# Altium integrated library Resistor 0603.IntLib: 149 symbols (part 2 of 2)
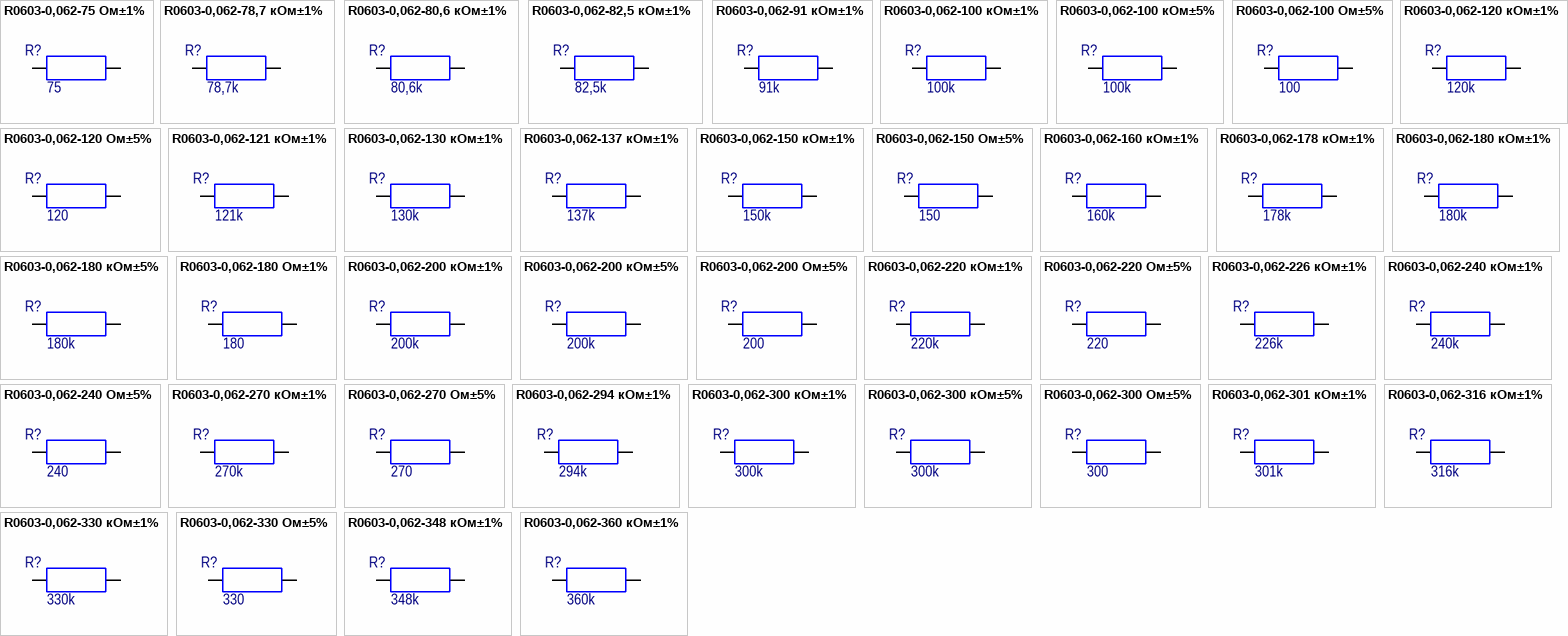
[diagram p4: symbols R0603-0,062-75 Ом±1% to R0603-0,062-360 кОм±1%]

## R0603-0,062-178 кОм±1%
designator R?  value 178k
RES SMD 178K OHM 1% 1/10W 0603; Manufacturer: Vishay Dale; ManufacturerPartNumber: CRCW0603178KFK; Group: 9130; RegulationProcent: 10; TypeName: Резистор; Distributor: Digi-Key; DistributorPartNumber: 541-178KHCT-ND; LatestRevisionDate: 01.10.2015; Library: Resistor 0603; Package: 1608 [0603]; Published: 01.10.2015; Publisher: Stanchik A
footprint RESC1608N [0603] (Chip Resistor, Body 1.6x0.8mm, IPC Medium Density)
signal-integrity model Resistor
pins: 1, 2

## R0603-0,062-180 кОм±1%
designator R?  value 180k
RES SMD 180K OHM 1% 1/10W 0603; Manufacturer: Vishay Dale; ManufacturerPartNumber: CRCW0603180KFK; Group: 9130; RegulationProcent: 10; TypeName: Резистор; Distributor: Digi-Key; DistributorPartNumber: 541-180KHCT-ND; LatestRevisionDate: 10.10.2016; Library: Resistor 0603; Package: 1608 [0603]; Published: 10.10.2016; Publisher: Stanchik A
footprint RESC1608N [0603] (Chip Resistor, Body 1.6x0.8mm, IPC Medium Density)
signal-integrity model Resistor
pins: 1, 2

## R0603-0,062-180 кОм±5%
designator R?  value 180k
RES SMD 180K OHM 5% 1/10W 0603; Manufacturer: Vishay Dale; ManufacturerPartNumber: CRCW0603180KJN; Group: 9130; RegulationProcent: 10; TypeName: Резистор; Distributor: Digi-Key; DistributorPartNumber: 541-180KGCT-ND; LatestRevisionDate: 07.06.2016; Library: Resistor 0603; Package: 1608 [0603]; Published: 07.06.2016; Publisher: Stanchik A
footprint RESC1608N [0603] (Chip Resistor, Body 1.6x0.8mm, IPC Medium Density)
signal-integrity model Resistor
pins: 1, 2

## R0603-0,062-180 Ом±1%
designator R?  value 180
RES SMD 180 OHM 1% 1/10W 0603; Manufacturer: Vishay Dale; ManufacturerPartNumber: CRCW0603180RFK; Group: 9130; RegulationProcent: 10; TypeName: Резистор; Distributor: Digi-Key; DistributorPartNumber: 541-180HCT-ND; LatestRevisionDate: 10.09.2015; Library: Resistor 0603; Package: 1608 [0603]; Published: 10.09.2015; Publisher: Stanchik A
footprint RESC1608N [0603] (Chip Resistor, Body 1.6x0.8mm, IPC Medium Density)
signal-integrity model Resistor
pins: 1, 2

## R0603-0,062-200 кОм±1%
designator R?  value 200k
RES 200k OHM 1/10W 1% 0603 SMD; Manufacturer: Vishay Dale; ManufacturerPartNumber: CRCW0603200KFK; Group: 9130; RegulationProcent: 10; TypeName: Резистор; Distributor: Digi-Key; DistributorPartNumber: 541-200KHCT-ND; LatestRevisionDate: 10.07.2013; Library: Resistor 0603; Package: 1608 [0603]; Published: 29.11.2013; Publisher: Auchinik
footprint RESC1608N [0603] (Chip Resistor, Body 1.6x0.8mm, IPC Medium Density)
signal-integrity model Resistor
pins: 1, 2

## R0603-0,062-200 кОм±5%
designator R?  value 200k
RES SMD 200K OHM 5% 1/10W 0603; Manufacturer: Vishay Dale; ManufacturerPartNumber: CRCW0603200KJN; Group: 9130; RegulationProcent: 10; TypeName: Резистор; Distributor: Digi-Key; DistributorPartNumber: 541-200KGCT-ND; LatestRevisionDate: 14.07.2017; Library: Resistor 0603; Package: 1608 [0603]; Published: 14.07.2017; Publisher: Stanchik A
footprint RESC1608N [0603] (Chip Resistor, Body 1.6x0.8mm, IPC Medium Density)
signal-integrity model Resistor
pins: 1, 2

## R0603-0,062-200 Ом±5%
designator R?  value 200
RES 200 OHM 1/10W 5% 0603 SMD; Manufacturer: Vishay Dale; ManufacturerPartNumber: CRCW0603200RJN; Group: 9130; RegulationProcent: 10; TypeName: Резистор; Distributor: Digi-Key; DistributorPartNumber: 541-200GCT-ND; LatestRevisionDate: 10.07.2013; Library: Resistor 0603; Package: 1608 [0603]; Published: 10.07.2013; Publisher: Konon DI
footprint RESC1608N [0603] (Chip Resistor, Body 1.6x0.8mm, IPC Medium Density)
signal-integrity model Resistor
pins: 1, 2

## R0603-0,062-220 кОм±1%
designator R?  value 220k
RES SMD 220K OHM 1% 1/10W 0603; Manufacturer: Vishay Dale; ManufacturerPartNumber: CRCW0603220KFK; Group: 9130; RegulationProcent: 10; TypeName: Резистор; Distributor: Digi-Key; DistributorPartNumber: 541-220KHCT-ND; LatestRevisionDate: 25.04.2015; Library: Resistor 0603; Package: 1608 [0603]; Published: 25.04.2015; Publisher: Stanchik A
footprint RESC1608N [0603] (Chip Resistor, Body 1.6x0.8mm, IPC Medium Density)
signal-integrity model Resistor
pins: 1, 2

## R0603-0,062-220 Ом±5%
designator R?  value 220
RES 220 OHM 1/10W 5% 0603 SMD; Manufacturer: Vishay Dale; ManufacturerPartNumber: CRCW0603220RJN; Group: 9130; RegulationProcent: 10; TypeName: Резистор; Distributor: Digi-Key; DistributorPartNumber: 541-220GCT-ND; LatestRevisionDate: 10.07.2013; Library: Resistor 0603; Package: 1608 [0603]; Published: 10.07.2013; Publisher: Konon DI
footprint RESC1608N [0603] (Chip Resistor, Body 1.6x0.8mm, IPC Medium Density)
signal-integrity model Resistor
pins: 1, 2

## R0603-0,062-226 кОм±1%
designator R?  value 226k
RES SMD 226K OHM 1% 1/10W 0603; Manufacturer: Vishay Dale; ManufacturerPartNumber: CRCW0603226KFK; Group: 9130; RegulationProcent: 10; TypeName: Резистор; Distributor: Digi-Key; DistributorPartNumber: 541-226KHCT-ND; LatestRevisionDate: 16.07.2015; Library: Resistor 0603; Package: 1608 [0603]; Published: 16.07.2015; Publisher: Stanchik A
footprint RESC1608N [0603] (Chip Resistor, Body 1.6x0.8mm, IPC Medium Density)
signal-integrity model Resistor
pins: 1, 2

## R0603-0,062-240 кОм±1%
designator R?  value 240k
RES SMD 240K OHM 1% 1/10W 0603; Manufacturer: Vishay Dale; ManufacturerPartNumber: CRCW0603240KFK; Group: 9130; RegulationProcent: 10; TypeName: Резистор; Distributor: Digi-Key; DistributorPartNumber: 541-240KHCT-ND; LatestRevisionDate: 27.05.2016; Library: Resistor 0603; Package: 1608 [0603]; Published: 27.05.2016; Publisher: Stanchik A
footprint RESC1608N [0603] (Chip Resistor, Body 1.6x0.8mm, IPC Medium Density)
signal-integrity model Resistor
pins: 1, 2

## R0603-0,062-240 Ом±5%
designator R?  value 240
RES SMD 240 OHM 5% 1/10W 0603; Manufacturer: Vishay Dale; ManufacturerPartNumber: CRCW0603240RJN; Group: 9130; RegulationProcent: 10; TypeName: Резистор; Distributor: Digi-Key; DistributorPartNumber: 541-240GCT-ND; LatestRevisionDate: 21.10.2016; Library: Resistor 0603; Package: 1608 [0603]; Published: 21.10.2016; Publisher: Stanchik A
footprint RESC1608N [0603] (Chip Resistor, Body 1.6x0.8mm, IPC Medium Density)
signal-integrity model Resistor
pins: 1, 2

## R0603-0,062-270 кОм±1%
designator R?  value 270k
RES SMD 270K OHM 1% 1/10W 0603; Manufacturer: Vishay Dale; ManufacturerPartNumber: CRCW0603270KFK; Group: 9130; RegulationProcent: 10; TypeName: Резистор; Distributor: Digi-Key; DistributorPartNumber: 541-270KHCT-ND; LatestRevisionDate: 16.09.2015; Library: Resistor 0603; Package: 1608 [0603]; Published: 16.09.2015; Publisher: Stanchik A
footprint RESC1608N [0603] (Chip Resistor, Body 1.6x0.8mm, IPC Medium Density)
signal-integrity model Resistor
pins: 1, 2

## R0603-0,062-270 Ом±5%
designator R?  value 270
RES SMD 270 OHM 5% 1/10W 0603; Manufacturer: Vishay Dale; ManufacturerPartNumber: CRCW0603270RJN; Group: 9130; RegulationProcent: 10; TypeName: Резистор; Distributor: Digi-Key; DistributorPartNumber: 541-270GCT-ND; LatestRevisionDate: 21.10.2016; Library: Resistor 0603; Package: 1608 [0603]; Published: 21.10.2016; Publisher: Stanchik A
footprint RESC1608N [0603] (Chip Resistor, Body 1.6x0.8mm, IPC Medium Density)
signal-integrity model Resistor
pins: 1, 2

## R0603-0,062-294 кОм±1%
designator R?  value 294k
RES SMD 294K OHM 1% 1/10W 0603; Manufacturer: Vishay Dale; ManufacturerPartNumber: CRCW0603294KFK; Group: 9130; RegulationProcent: 10; TypeName: Резистор; Distributor: Digi-Key; DistributorPartNumber: 541-294KHCT-ND; LatestRevisionDate: 28.08.2017; Library: Resistor 0603; Package: 1608 [0603]; Published: 28.08.2017; Publisher: Stanchik A
footprint RESC1608N [0603] (Chip Resistor, Body 1.6x0.8mm, IPC Medium Density)
signal-integrity model Resistor
pins: 1, 2

## R0603-0,062-300 кОм±1%
designator R?  value 300k
RES 300K OHM 1/10W 1% 0603 SMD; Manufacturer: Vishay Dale; ManufacturerPartNumber: CRCW0603300KFK; Group: 9130; RegulationProcent: 10; TypeName: Резистор; Distributor: Digi-Key; DistributorPartNumber: 541-300KHDKR-ND; LatestRevisionDate: 19.11.2014; Library: Resistor 0603; Package: 1608 [0603]; Published: 19.11.2014; Publisher: Stanchik A
footprint RESC1608N [0603] (Chip Resistor, Body 1.6x0.8mm, IPC Medium Density)
signal-integrity model Resistor
pins: 1, 2

## R0603-0,062-300 кОм±5%
designator R?  value 300k
RES SMD 300K OHM 5% 1/10W 0603; Manufacturer: Vishay Dale; ManufacturerPartNumber: CRCW0603300KJN; Group: 9130; RegulationProcent: 10; TypeName: Резистор; Distributor: Digi-Key; DistributorPartNumber: 541-300KGCT-ND; LatestRevisionDate: 13.07.2015; Library: Resistor 0603; Package: 1608 [0603]; Published: 13.07.2015; Publisher: Stanchik A
footprint RESC1608N [0603] (Chip Resistor, Body 1.6x0.8mm, IPC Medium Density)
signal-integrity model Resistor
pins: 1, 2

## R0603-0,062-300 Ом±5%
designator R?  value 300
RES SMD 300 OHM 5% 1/10W 0603; Manufacturer: Vishay Dale; ManufacturerPartNumber: CRCW0603300RJN; Group: 9130; RegulationProcent: 10; TypeName: Резистор; Distributor: Digi-Key; DistributorPartNumber: 541-300GCT-ND; LatestRevisionDate: 21.10.2016; Library: Resistor 0603; Package: 1608 [0603]; Published: 21.10.2016; Publisher: Stanchik A
footprint RESC1608N [0603] (Chip Resistor, Body 1.6x0.8mm, IPC Medium Density)
signal-integrity model Resistor
pins: 1, 2

## R0603-0,062-301 кОм±1%
designator R?  value 301k
RES 301K OHM 1/10W 1% 0603 SMD; Manufacturer: Vishay Dale; ManufacturerPartNumber: CRCW0603301KFK; Group: 9130; RegulationProcent: 10; TypeName: Резистор; Distributor: Digi-Key; DistributorPartNumber: 541-301KHDKR-ND; LatestRevisionDate: 19.11.2014; Library: Resistor 0603; Package: 1608 [0603]; Published: 19.11.2014; Publisher: Stanchik A
footprint RESC1608N [0603] (Chip Resistor, Body 1.6x0.8mm, IPC Medium Density)
signal-integrity model Resistor
pins: 1, 2

## R0603-0,062-316 кОм±1%
designator R?  value 316k
RES SMD 316K OHM 1% 1/10W 0603; Manufacturer: Vishay Dale; ManufacturerPartNumber: CRCW0603316KFK; Group: 9130; RegulationProcent: 10; TypeName: Резистор; Distributor: Digi-Key; DistributorPartNumber: 541-316KHCT-ND; LatestRevisionDate: 01.03.2017; Library: Resistor 0603; Package: 1608 [0603]; Published: 01.03.2017; Publisher: Stanchik A
footprint RESC1608N [0603] (Chip Resistor, Body 1.6x0.8mm, IPC Medium Density)
signal-integrity model Resistor
pins: 1, 2

## R0603-0,062-330 кОм±1%
designator R?  value 330k
RES 330k OHM 1/10W 1% 0603 SMD; Manufacturer: Vishay Dale; ManufacturerPartNumber: CRCW0603330KFK; Group: 9130; RegulationProcent: 10; TypeName: Резистор; Distributor: Digi-Key; DistributorPartNumber: 541-330KHCT-ND; LatestRevisionDate: 10.07.2013; Library: Resistor 0603; Package: 1608 [0603]; Published: 29.11.2013; Publisher: Auchinik
footprint RESC1608N [0603] (Chip Resistor, Body 1.6x0.8mm, IPC Medium Density)
signal-integrity model Resistor
pins: 1, 2

## R0603-0,062-330 Ом±5%
designator R?  value 330
RES 330 OHM 1/10W 5% 0603 SMD; Manufacturer: Vishay Dale; ManufacturerPartNumber: CRCW0603330RJN; Group: 9130; RegulationProcent: 10; TypeName: Резистор; Distributor: Digi-Key; DistributorPartNumber: 541-330GCT-ND; LatestRevisionDate: 10.07.2013; Library: Resistor 0603; Package: 1608 [0603]; Published: 10.07.2013; Publisher: Konon DI
footprint RESC1608N [0603] (Chip Resistor, Body 1.6x0.8mm, IPC Medium Density)
signal-integrity model Resistor
pins: 1, 2

## R0603-0,062-348 кОм±1%
designator R?  value 348k
RES SMD 348K OHM 1% 1/10W 0603; Manufacturer: Vishay Dale; ManufacturerPartNumber: CRCW0603348KFK; Group: 9130; RegulationProcent: 10; TypeName: Резистор; Distributor: Digi-Key; DistributorPartNumber: 541-348KHCT-ND; LatestRevisionDate: 07.06.2016; Library: Resistor 0603; Package: 1608 [0603]; Published: 07.06.2016; Publisher: Stanchik A
footprint RESC1608N [0603] (Chip Resistor, Body 1.6x0.8mm, IPC Medium Density)
signal-integrity model Resistor
pins: 1, 2

## R0603-0,062-360 кОм±1%
designator R?  value 360k
RES 360K OHM 1/10W 1% 0603 SMD; Manufacturer: Vishay Dale; ManufacturerPartNumber: CRCW0603360KFK; Group: 9130; RegulationProcent: 10; TypeName: Резистор; Distributor: Digi-Key; DistributorPartNumber: 541-360KHDKR-ND; LatestRevisionDate: 28.07.2014; Library: Resistor 0603; Package: 1608 [0603]; Published: 28.07.2014; Publisher: Stanchik A
footprint RESC1608N [0603] (Chip Resistor, Body 1.6x0.8mm, IPC Medium Density)
signal-integrity model Resistor
pins: 1, 2

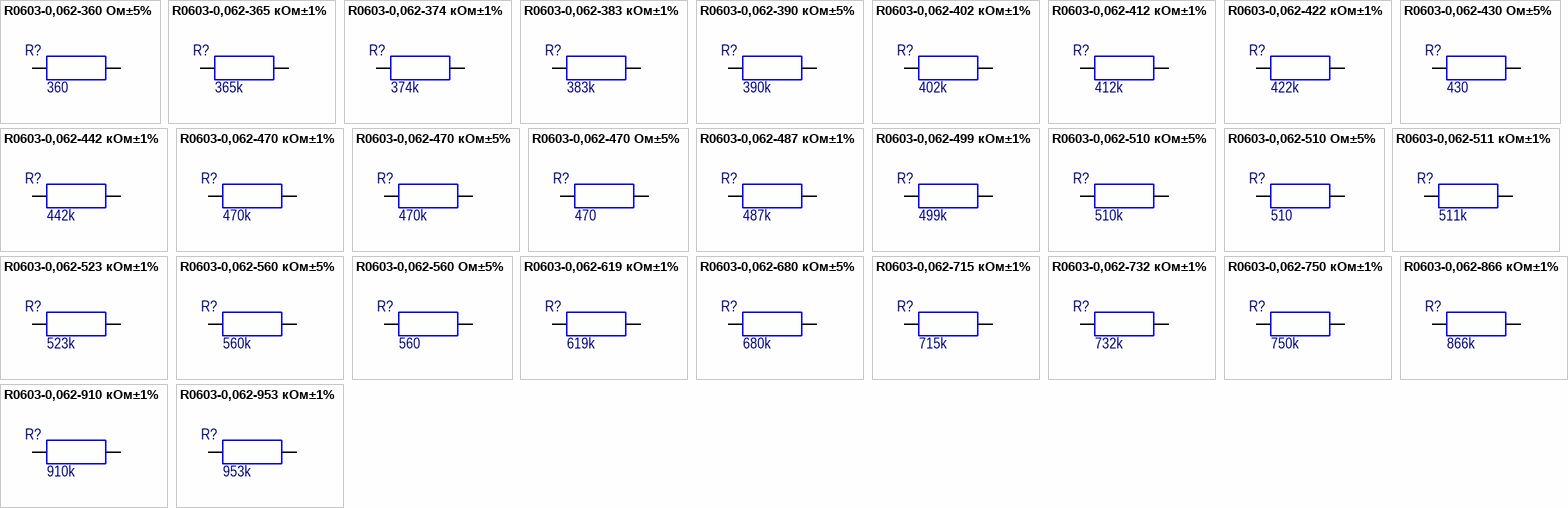
[diagram p3: symbols R0603-0,062-360 Ом±5% to R0603-0,062-953 кОм±1%]

## R0603-0,062-360 Ом±5%
designator R?  value 360
RES SMD 360 OHM 5% 1/10W 0603; Manufacturer: Vishay Dale; ManufacturerPartNumber: CRCW0603360RJN; Group: 9130; RegulationProcent: 10; TypeName: Резистор; Distributor: Digi-Key; DistributorPartNumber: 541-360GCT-ND; LatestRevisionDate: 25.06.2015; Library: Resistor 0603; Package: 1608 [0603]; Published: 25.06.2015; Publisher: Stanchik A
footprint RESC1608N [0603] (Chip Resistor, Body 1.6x0.8mm, IPC Medium Density)
signal-integrity model Resistor
pins: 1, 2

## R0603-0,062-365 кОм±1%
designator R?  value 365k
RES SMD 365K OHM 1% 1/10W 0603; Manufacturer: Vishay Dale; ManufacturerPartNumber: CRCW0603365KFK; Group: 9130; RegulationProcent: 10; TypeName: Резистор; Distributor: Digi-Key; DistributorPartNumber: 541-365KHCT-ND; LatestRevisionDate: 10.01.2015; Library: Resistor 0603; Package: 1608 [0603]; Published: 10.01.2015; Publisher: Stanchik A
footprint RESC1608N [0603] (Chip Resistor, Body 1.6x0.8mm, IPC Medium Density)
signal-integrity model Resistor
pins: 1, 2

## R0603-0,062-374 кОм±1%
designator R?  value 374k
RES SMD 374K OHM 1% 1/10W 0603; Manufacturer: Vishay Dale; ManufacturerPartNumber: CRCW0603374KFK; Group: 9130; RegulationProcent: 10; TypeName: Резистор; Distributor: Digi-Key; DistributorPartNumber: 541-374KHCT-ND; LatestRevisionDate: 10.05.2017; Library: Resistor 0603; Package: 1608 [0603]; Published: 10.05.2017; Publisher: Stanchik A
footprint RESC1608N [0603] (Chip Resistor, Body 1.6x0.8mm, IPC Medium Density)
signal-integrity model Resistor
pins: 1, 2

## R0603-0,062-383 кОм±1%
designator R?  value 383k
RES SMD 383K OHM 1% 1/10W 0603; Manufacturer: Vishay Dale; ManufacturerPartNumber: CRCW0603383KFK; Group: 9130; RegulationProcent: 10; TypeName: Резистор; Distributor: Digi-Key; DistributorPartNumber: 541-383KHCT-ND; LatestRevisionDate: 13.07.2015; Library: Resistor 0603; Package: 1608 [0603]; Published: 13.07.2015; Publisher: Stanchik A
footprint RESC1608N [0603] (Chip Resistor, Body 1.6x0.8mm, IPC Medium Density)
signal-integrity model Resistor
pins: 1, 2

## R0603-0,062-390 кОм±5%
designator R?  value 390k
RES SMD 390K OHM 5% 1/10W 0603; Manufacturer: Vishay Dale; ManufacturerPartNumber: CRCW0603390KJN; Group: 9130; RegulationProcent: 10; TypeName: Резистор; Distributor: Digi-Key; DistributorPartNumber: 541-390KGCT-ND; LatestRevisionDate: 12.01.2015; Library: Resistor 0603; Package: 1608 [0603]; Published: 12.01.2015; Publisher: Stanchik A
footprint RESC1608N [0603] (Chip Resistor, Body 1.6x0.8mm, IPC Medium Density)
signal-integrity model Resistor
pins: 1, 2

## R0603-0,062-402 кОм±1%
designator R?  value 402k
RES SMD 402K OHM 1% 1/10W 0603; Manufacturer: Vishay Dale; ManufacturerPartNumber: CRCW0603402KFK; Group: 9130; RegulationProcent: 10; TypeName: Резистор; Distributor: Digi-Key; DistributorPartNumber: 541-402KHCT-ND; LatestRevisionDate: 28.08.2017; Library: Resistor 0603; Package: 1608 [0603]; Published: 28.08.2017; Publisher: Stanchik A
footprint RESC1608N [0603] (Chip Resistor, Body 1.6x0.8mm, IPC Medium Density)
signal-integrity model Resistor
pins: 1, 2

## R0603-0,062-412 кОм±1%
designator R?  value 412k
RES 412K OHM 1/10W 1% 0603 SMD; Manufacturer: Vishay Dale; ManufacturerPartNumber: CRCW0603412KFK; Group: 9130; RegulationProcent: 10; TypeName: Резистор; Distributor: Digi-Key; DistributorPartNumber: 541-412KHCT-ND; LatestRevisionDate: 10.07.2013; Library: Resistor 0603; Package: 1608 [0603]; Published: 10.07.2013; Publisher: Konon DI
footprint RESC1608N [0603] (Chip Resistor, Body 1.6x0.8mm, IPC Medium Density)
signal-integrity model Resistor
pins: 1, 2

## R0603-0,062-422 кОм±1%
designator R?  value 422k
RES SMD 422K OHM 1% 1/10W 0603; Manufacturer: Vishay Dale; ManufacturerPartNumber: CRCW0603422KFK; Group: 9130; RegulationProcent: 10; TypeName: Резистор; Distributor: Digi-Key; DistributorPartNumber: 541-422KHCT-ND; LatestRevisionDate: 19.02.2015; Library: Resistor 0603; Package: 1608 [0603]; Published: 19.02.2015; Publisher: Stanchik A
footprint RESC1608N [0603] (Chip Resistor, Body 1.6x0.8mm, IPC Medium Density)
signal-integrity model Resistor
pins: 1, 2

## R0603-0,062-430 Ом±5%
designator R?  value 430
RES SMD 430 OHM 5% 1/10W 0603; Manufacturer: Vishay Dale; ManufacturerPartNumber: CRCW0603430RJN; Group: 9130; RegulationProcent: 10; TypeName: Резистор; Distributor: Digi-Key; DistributorPartNumber: 541-430GCT-ND; LatestRevisionDate: 01.11.2016; Library: Resistor 0603; Package: 1608 [0603]; Published: 01.11.2016; Publisher: Stanchik A
footprint RESC1608N [0603] (Chip Resistor, Body 1.6x0.8mm, IPC Medium Density)
signal-integrity model Resistor
pins: 1, 2

## R0603-0,062-442 кОм±1%
designator R?  value 442k
RES 442K OHM 1/10W 1% 0603 SMD; Manufacturer: Vishay Dale; ManufacturerPartNumber: CRCW0603442KFK; Group: 9130; RegulationProcent: 10; TypeName: Резистор; Distributor: Digi-Key; DistributorPartNumber: 541-442KHCT-ND; LatestRevisionDate: 10.07.2013; Library: Resistor 0603; Package: 1608 [0603]; Published: 10.07.2013; Publisher: Konon DI
footprint RESC1608N [0603] (Chip Resistor, Body 1.6x0.8mm, IPC Medium Density)
signal-integrity model Resistor
pins: 1, 2

## R0603-0,062-470 кОм±1%
designator R?  value 470k
RES 470k OHM 1/10W 1% 0603 SMD; Manufacturer: Vishay Dale; ManufacturerPartNumber: CRCW0603470KFK; Group: 9130; RegulationProcent: 10; TypeName: Резистор; Distributor: Digi-Key; DistributorPartNumber: 541-470KHCT-ND; LatestRevisionDate: 10.07.2013; Library: Resistor 0603; Package: 1608 [0603]; Published: 29.11.2013; Publisher: Auchinik
footprint RESC1608N [0603] (Chip Resistor, Body 1.6x0.8mm, IPC Medium Density)
signal-integrity model Resistor
pins: 1, 2

## R0603-0,062-470 кОм±5%
designator R?  value 470k
RES SMD 470K OHM 5% 1/10W 0603; Manufacturer: Vishay Dale; ManufacturerPartNumber: CRCW0603470KJN; Group: 9130; RegulationProcent: 10; TypeName: Резистор; Distributor: Digi-Key; DistributorPartNumber: 541-470KGCT-ND; LatestRevisionDate: 02.12.2015; Library: Resistor 0603; Package: 1608 [0603]; Published: 02.12.2015; Publisher: Stanchik A
footprint RESC1608N [0603] (Chip Resistor, Body 1.6x0.8mm, IPC Medium Density)
signal-integrity model Resistor
pins: 1, 2

## R0603-0,062-470 Ом±5%
designator R?  value 470
RES SMD 470 OHM 5% 1/10W 0603; Manufacturer: Vishay Dale; ManufacturerPartNumber: CRCW0603470RJN; Group: 9130; RegulationProcent: 10; TypeName: Резистор; Distributor: Digi-Key; DistributorPartNumber: 541-470GCT-ND; LatestRevisionDate: 01.11.2016; Library: Resistor 0603; Package: 1608 [0603]; Published: 01.11.2016; Publisher: Stanchik A
footprint RESC1608N [0603] (Chip Resistor, Body 1.6x0.8mm, IPC Medium Density)
signal-integrity model Resistor
pins: 1, 2

## R0603-0,062-487 кОм±1%
designator R?  value 487k
RES SMD 487K OHM 1% 1/10W 0603; Manufacturer: Vishay Dale; ManufacturerPartNumber: CRCW0603487KFK; Group: 9130; RegulationProcent: 10; TypeName: Резистор; Distributor: Digi-Key; DistributorPartNumber: 541-487KHCT-ND; LatestRevisionDate: 19.02.2015; Library: Resistor 0603; Package: 1608 [0603]; Published: 19.02.2015; Publisher: Stanchik A
footprint RESC1608N [0603] (Chip Resistor, Body 1.6x0.8mm, IPC Medium Density)
signal-integrity model Resistor
pins: 1, 2

## R0603-0,062-499 кОм±1%
designator R?  value 499k
RES SMD 499K OHM 1% 1/10W 0603; Manufacturer: Vishay Dale; ManufacturerPartNumber: CRCW0603499KFK; Group: 9130; RegulationProcent: 10; TypeName: Резистор; Distributor: Digi-Key; DistributorPartNumber: 541-499KHCT-ND; LatestRevisionDate: 16.07.2015; Library: Resistor 0603; Package: 1608 [0603]; Published: 16.07.2015; Publisher: Stanchik A
footprint RESC1608N [0603] (Chip Resistor, Body 1.6x0.8mm, IPC Medium Density)
signal-integrity model Resistor
pins: 1, 2

## R0603-0,062-510 кОм±5%
designator R?  value 510k
RES SMD 510K OHM 5% 1/10W 0603; Manufacturer: Vishay Dale; ManufacturerPartNumber: CRCW0603510KJN; Group: 9130; RegulationProcent: 10; TypeName: Резистор; Distributor: Digi-Key; DistributorPartNumber: 541-510KGCT-ND; LatestRevisionDate: 17.07.2015; Library: Resistor 0603; Package: 1608 [0603]; Published: 17.07.2015; Publisher: Stanchik A
footprint RESC1608N [0603] (Chip Resistor, Body 1.6x0.8mm, IPC Medium Density)
signal-integrity model Resistor
pins: 1, 2

## R0603-0,062-510 Ом±5%
designator R?  value 510
RES SMD 510 OHM 5% 1/10W 0603; Manufacturer: Vishay Dale; ManufacturerPartNumber: CRCW0603510RJN; Group: 9130; RegulationProcent: 10; TypeName: Резистор; Distributor: Digi-Key; DistributorPartNumber: 541-510GCT-ND; LatestRevisionDate: 10.01.2015; Library: Resistor 0603; Package: 1608 [0603]; Published: 10.01.2015; Publisher: Stanchik A
footprint RESC1608N [0603] (Chip Resistor, Body 1.6x0.8mm, IPC Medium Density)
signal-integrity model Resistor
pins: 1, 2

## R0603-0,062-511 кОм±1%
designator R?  value 511k
RES SMD 511K OHM 1% 1/10W 0603; Manufacturer: Vishay Dale; ManufacturerPartNumber: CRCW0603511KFK; Group: 9130; RegulationProcent: 10; TypeName: Резистор; Distributor: Digi-Key; DistributorPartNumber: 541-511KHCT-ND; LatestRevisionDate: 17.02.2015; Library: Resistor 0603; Package: 1608 [0603]; Published: 17.02.2015; Publisher: Stanchik A
footprint RESC1608N [0603] (Chip Resistor, Body 1.6x0.8mm, IPC Medium Density)
signal-integrity model Resistor
pins: 1, 2

## R0603-0,062-523 кОм±1%
designator R?  value 523k
RES SMD 523K OHM 1% 1/10W 0603; Manufacturer: Vishay Dale; ManufacturerPartNumber: CRCW0603523KFK; Group: 9130; RegulationProcent: 10; TypeName: Резистор; Distributor: Digi-Key; DistributorPartNumber: 541-523KHCT-ND; LatestRevisionDate: 01.03.2017; Library: Resistor 0603; Package: 1608 [0603]; Published: 01.03.2017; Publisher: Stanchik A
footprint RESC1608N [0603] (Chip Resistor, Body 1.6x0.8mm, IPC Medium Density)
signal-integrity model Resistor
pins: 1, 2

## R0603-0,062-560 кОм±5%
designator R?  value 560k
RES 560K OHM 1/10W 5% 0603 SMD; Manufacturer: Vishay Dale; ManufacturerPartNumber: CRCW0603560KJN; Group: 9130; RegulationProcent: 10; TypeName: Резистор; Distributor: Digi-Key; DistributorPartNumber: 541-560KGCT-ND; LatestRevisionDate: 05.10.2016; Library: Resistor 0603; Package: 1608 [0603]; Published: 05.10.2016; Publisher: Stanchik A
footprint RESC1608N [0603] (Chip Resistor, Body 1.6x0.8mm, IPC Medium Density)
signal-integrity model Resistor
pins: 1, 2

## R0603-0,062-560 Ом±5%
designator R?  value 560
RES 560 OHM 1/10W 5% 0603 SMD; Manufacturer: Bourns Inc.; ManufacturerPartNumber: CR0603-JW-561GLF; Group: 9130; RegulationProcent: 10; TypeName: Резистор; Distributor: Digi-Key; DistributorPartNumber: CR0603-JW-561GLFCT-ND; LatestRevisionDate: 07.05.2014; Library: Resistor 0603; Package: 1608 [0603]; Published: 07.05.2014; Publisher: Stanchik A F
footprint RESC1608N [0603] (Chip Resistor, Body 1.6x0.8mm, IPC Medium Density)
signal-integrity model Resistor
pins: 1, 2

## R0603-0,062-619 кОм±1%
designator R?  value 619k
RES SMD 619K OHM 1% 1/10W 0603; Manufacturer: Vishay Dale; ManufacturerPartNumber: CRCW0603619KFK; Group: 9130; RegulationProcent: 10; TypeName: Резистор; Distributor: Digi-Key; DistributorPartNumber: 541-619KHCT-ND; LatestRevisionDate: 17.02.2015; Library: Resistor 0603; Package: 1608 [0603]; Published: 17.02.2015; Publisher: Stanchik A
footprint RESC1608N [0603] (Chip Resistor, Body 1.6x0.8mm, IPC Medium Density)
signal-integrity model Resistor
pins: 1, 2

## R0603-0,062-680 кОм±5%
designator R?  value 680k
RES SMD 680K OHM 5% 1/10W 0603; Manufacturer: Vishay Dale; ManufacturerPartNumber: CRCW0603680KJN; Group: 9130; RegulationProcent: 10; TypeName: Резистор; Distributor: Digi-Key; DistributorPartNumber: 541-680KGCT-ND; LatestRevisionDate: 02.12.2015; Library: Resistor 0603; Package: 1608 [0603]; Published: 02.12.2015; Publisher: Stanchik A
footprint RESC1608N [0603] (Chip Resistor, Body 1.6x0.8mm, IPC Medium Density)
signal-integrity model Resistor
pins: 1, 2

## R0603-0,062-715 кОм±1%
designator R?  value 715k
RES SMD 715K OHM 1% 1/10W 0603; Manufacturer: Vishay Dale; ManufacturerPartNumber: CRCW0603715KFK; Group: 9130; RegulationProcent: 10; TypeName: Резистор; Distributor: Digi-Key; DistributorPartNumber: 541-715KHCT-ND; LatestRevisionDate: 19.02.2015; Library: Resistor 0603; Package: 1608 [0603]; Published: 19.02.2015; Publisher: Stanchik A
footprint RESC1608N [0603] (Chip Resistor, Body 1.6x0.8mm, IPC Medium Density)
signal-integrity model Resistor
pins: 1, 2

## R0603-0,062-732 кОм±1%
designator R?  value 732k
RES SMD 732K OHM 1% 1/10W 0603; Manufacturer: Vishay Dale; ManufacturerPartNumber: CRCW0603732KFK; Group: 9130; RegulationProcent: 10; TypeName: Резистор; Distributor: Digi-Key; DistributorPartNumber: 541-732KHCT-ND; LatestRevisionDate: 05.10.2015; Library: Resistor 0603; Package: 1608 [0603]; Published: 05.10.2015; Publisher: Stanchik A
footprint RESC1608N [0603] (Chip Resistor, Body 1.6x0.8mm, IPC Medium Density)
signal-integrity model Resistor
pins: 1, 2

## R0603-0,062-750 кОм±1%
designator R?  value 750k
RES SMD 750K OHM 1% 1/10W 0603; Manufacturer: Vishay Dale; ManufacturerPartNumber: CRCW0603750KFK; Group: 9130; RegulationProcent: 10; TypeName: Резистор; Distributor: Digi-Key; DistributorPartNumber: 541-750KHCT-ND; LatestRevisionDate: 12.05.2016; Library: Resistor 0603; Package: 1608 [0603]; Published: 12.05.2016; Publisher: Stanchik A
footprint RESC1608N [0603] (Chip Resistor, Body 1.6x0.8mm, IPC Medium Density)
signal-integrity model Resistor
pins: 1, 2

## R0603-0,062-866 кОм±1%
designator R?  value 866k
RES SMD 866K OHM 1% 1/10W 0603; Manufacturer: Vishay Dale; ManufacturerPartNumber: CRCW0603866KFK; Group: 9130; RegulationProcent: 10; TypeName: Резистор; Distributor: Digi-Key; DistributorPartNumber: 541-866KHCT-ND; LatestRevisionDate: 14.06.2016; Library: Resistor 0603; Package: 1608 [0603]; Published: 14.06.2016; Publisher: Stanchik A
footprint RESC1608N [0603] (Chip Resistor, Body 1.6x0.8mm, IPC Medium Density)
signal-integrity model Resistor
pins: 1, 2

## R0603-0,062-910 кОм±1%
designator R?  value 910k
RES 910K OHM 1/10W 1% 0603 SMD; Manufacturer: Vishay Dale; ManufacturerPartNumber: CRCW0603910KFK; Group: 9130; RegulationProcent: 10; TypeName: Резистор; Distributor: Digi-Key; DistributorPartNumber: 541-910KHCT-ND; LatestRevisionDate: 26.05.2014; Library: Resistor 0603; Package: 1608 [0603]; Published: 10.07.2013; Publisher: Auchinik
footprint RESC1608N [0603] (Chip Resistor, Body 1.6x0.8mm, IPC Medium Density)
signal-integrity model Resistor
pins: 1, 2

## R0603-0,062-953 кОм±1%
designator R?  value 953k
RES SMD 953K OHM 1% 1/10W 0603; Manufacturer: Vishay Dale; ManufacturerPartNumber: CRCW0603953KFK; Group: 9130; RegulationProcent: 10; TypeName: Резистор; Distributor: Digi-Key; DistributorPartNumber: 541-953KHCT-ND; LatestRevisionDate: 06.03.2015; Library: Resistor 0603; Package: 1608 [0603]; Published: 06.03.2015; Publisher: Stanchik A
footprint RESC1608N [0603] (Chip Resistor, Body 1.6x0.8mm, IPC Medium Density)
signal-integrity model Resistor
pins: 1, 2